# EAGLE library part ATTINY85 (library Eric Navarrete Custom Parts Feb 2019)
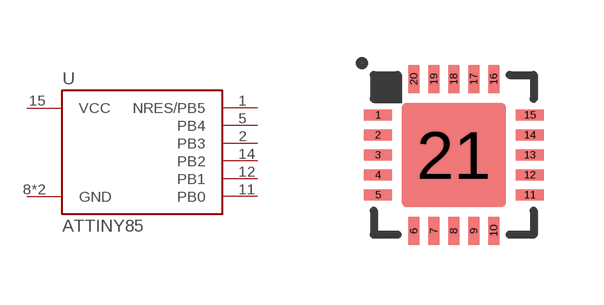
[diagram p17: symbol with the pads of ATTINY85_MLF_20; footprint ATTINY85_MLF_20]

Designator prefix -

## ATTINY85  [ATTINY85_MLF_20]
1  NRES/PB5
2  PB3
5  PB4
8  GND  pwr
11  PB0
12  PB1
14  PB2
15  VCC  pwr
21  GND  pwr

## Footprint ATTINY85_MLF_20 (pad centres in mm)
smd 0.7 x 0.28: 1 -1.9,1; 2 -1.9,0.5; 3 -1.9,0; 4 -1.9,-0.5; 5 -1.9,-1; 11 1.9,-1; 12 1.9,-0.5; 13 1.9,0; 14 1.9,0.5; 15 1.9,1
smd 0.28 x 0.7: 6 -1,-1.9; 7 -0.5,-1.9; 8 0,-1.9; 9 0.5,-1.9; 10 1,-1.9; 16 1,1.9; 17 0.5,1.9; 18 0,1.9; 19 -0.5,1.9; 20 -1,1.9
smd 2.6 x 2.6: 21 0,0